# EAGLE library part EP3C25Q240 (library ic-Altera)
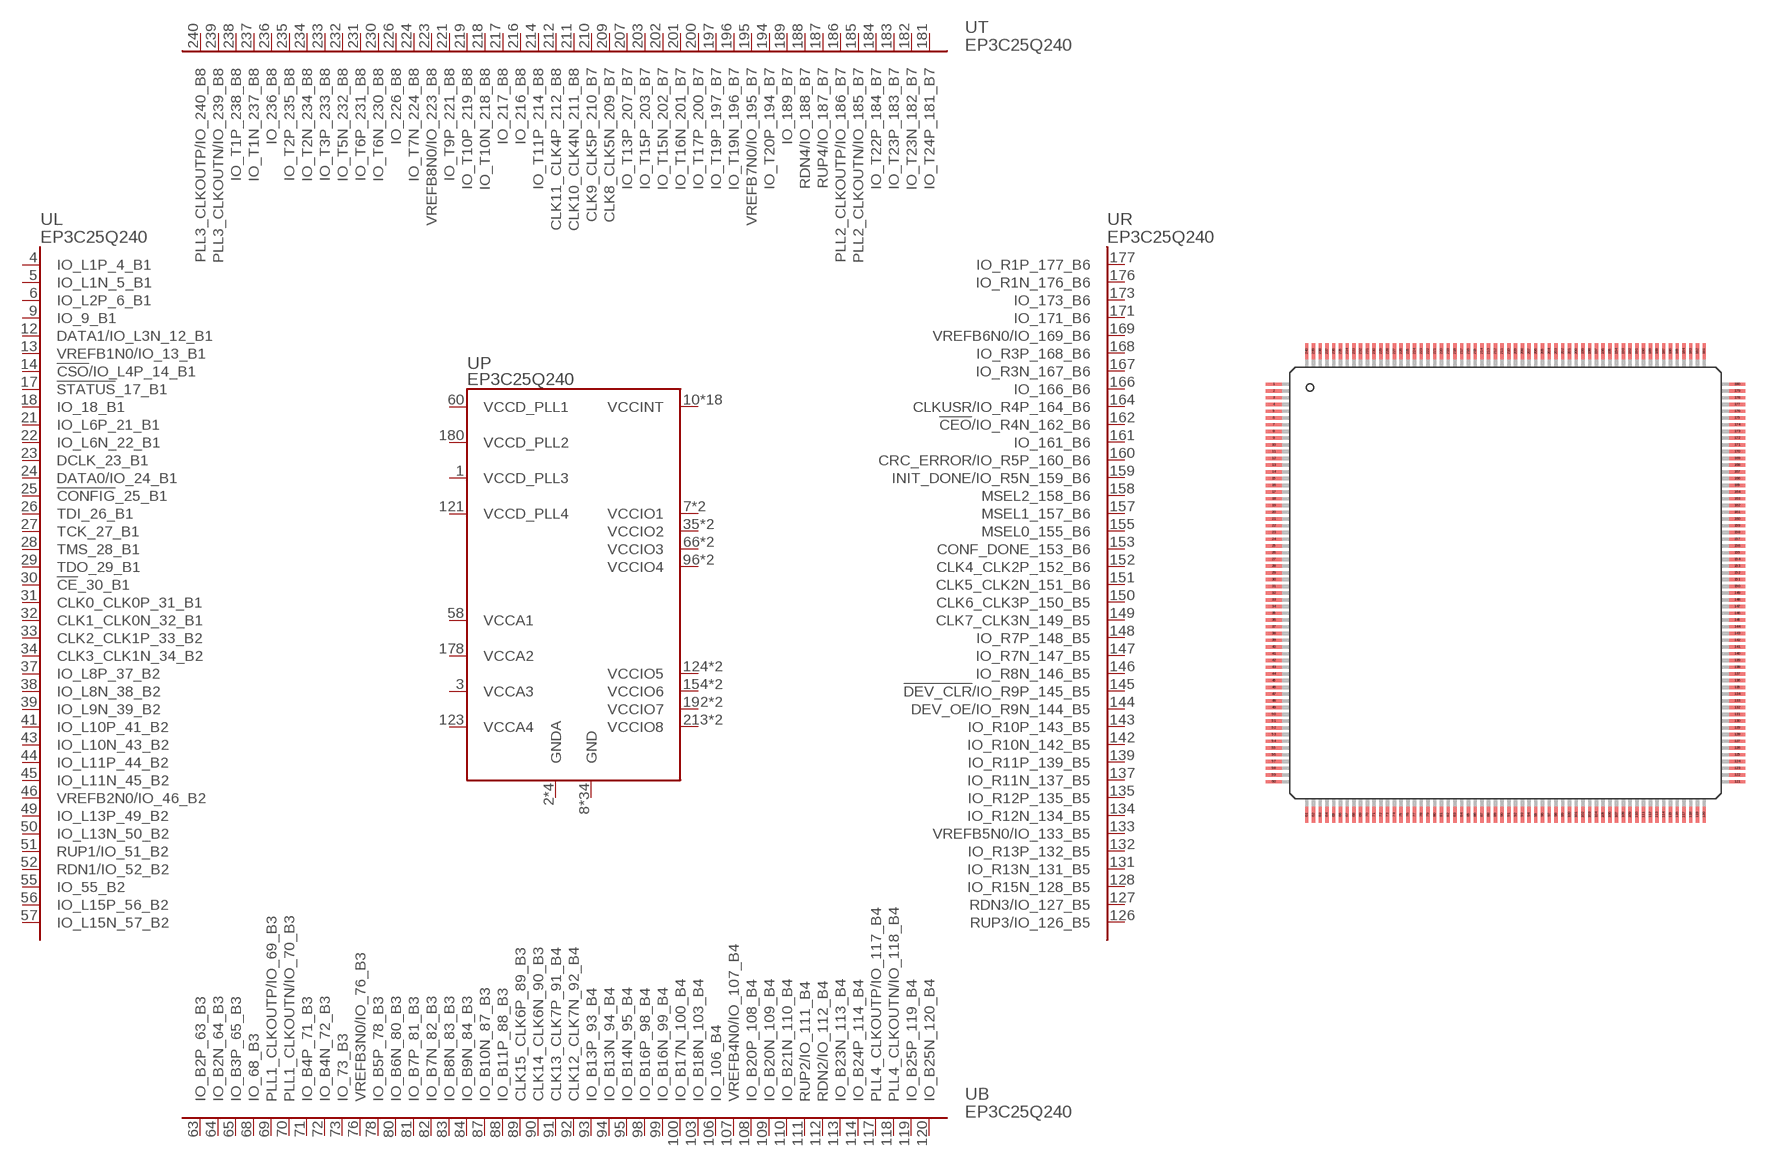
[diagram p7: symbol with the pads of QFP240-0.5; footprint QFP240-0.5]

Designator prefix U; gates L=EP3C25-Q240_L B=EP3C25-Q240_B R=EP3C25-Q240_R T=EP3C25-Q240_T P=EP3C25-Q240_POWER

## EP3C25Q240  [QFP240-0.5]
1  P:VCCD_PLL3
2  P:GNDA
3  P:VCCA3
4  L:IO_L1P_4_B1
5  L:IO_L1N_5_B1
6  L:IO_L2P_6_B1
7  P:VCCIO1
8  P:GND
9  L:IO_9_B1
10  P:VCCINT
11  P:GND
12  L:DATA1/IO_L3N_12_B1
13  L:VREFB1N0/IO_13_B1
14  L:!CSO!/IO_L4P_14_B1
15  P:VCCIO1
16  P:GND
17  L:!STATUS!_17_B1
18  L:IO_18_B1
19  P:VCCINT
20  P:GND
21  L:IO_L6P_21_B1
22  L:IO_L6N_22_B1
23  L:DCLK_23_B1
24  L:DATA0/IO_24_B1
25  L:!CONFIG!_25_B1
26  L:TDI_26_B1
27  L:TCK_27_B1
28  L:TMS_28_B1
29  L:TDO_29_B1
30  L:!CE!_30_B1
31  L:CLK0_CLK0P_31_B1
32  L:CLK1_CLK0N_32_B1
33  L:CLK2_CLK1P_33_B2
34  L:CLK3_CLK1N_34_B2
35  P:VCCIO2
36  P:GND
37  L:IO_L8P_37_B2
38  L:IO_L8N_38_B2
39  L:IO_L9N_39_B2
40  P:VCCINT
41  L:IO_L10P_41_B2
42  P:GND
43  L:IO_L10N_43_B2
44  L:IO_L11P_44_B2
45  L:IO_L11N_45_B2
46  L:VREFB2N0/IO_46_B2
47  P:VCCIO2
48  P:GND
49  L:IO_L13P_49_B2
50  L:IO_L13N_50_B2
51  L:RUP1/IO_51_B2
52  L:RDN1/IO_52_B2
53  P:VCCINT
54  P:GND
55  L:IO_55_B2
56  L:IO_L15P_56_B2
57  L:IO_L15N_57_B2
58  P:VCCA1
59  P:GNDA
60  P:VCCD_PLL1
61  P:VCCINT
62  P:GND
63  B:IO_B2P_63_B3
64  B:IO_B2N_64_B3
65  B:IO_B3P_65_B3
66  P:VCCIO3
67  P:GND
68  B:IO_68_B3
69  B:PLL1_CLKOUTP/IO_69_B3
70  B:PLL1_CLKOUTN/IO_70_B3
71  B:IO_B4P_71_B3
72  B:IO_B4N_72_B3
73  B:IO_73_B3
74  P:VCCINT
75  P:GND
76  B:VREFB3N0/IO_76_B3
77  P:VCCIO3
78  B:IO_B5P_78_B3
79  P:GND
80  B:IO_B6N_80_B3
81  B:IO_B7P_81_B3
82  B:IO_B7N_82_B3
83  B:IO_B8N_83_B3
84  B:IO_B9N_84_B3
85  P:VCCINT
86  P:GND
87  B:IO_B10N_87_B3
88  B:IO_B11P_88_B3
89  B:CLK15_CLK6P_89_B3
90  B:CLK14_CLK6N_90_B3
91  B:CLK13_CLK7P_91_B4
92  B:CLK12_CLK7N_92_B4
93  B:IO_B13P_93_B4
94  B:IO_B13N_94_B4
95  B:IO_B14N_95_B4
96  P:VCCIO4
97  P:GND
98  B:IO_B16P_98_B4
99  B:IO_B16N_99_B4
100  B:IO_B17N_100_B4
101  P:VCCINT
102  P:GND
103  B:IO_B18N_103_B4
104  P:VCCIO4
105  P:GND
106  B:IO_106_B4
107  B:VREFB4N0/IO_107_B4
108  B:IO_B20P_108_B4
109  B:IO_B20N_109_B4
110  B:IO_B21N_110_B4
111  B:RUP2/IO_111_B4
112  B:RDN2/IO_112_B4
113  B:IO_B23N_113_B4
114  B:IO_B24P_114_B4
115  P:VCCINT
116  P:GND
117  B:PLL4_CLKOUTP/IO_117_B4
118  B:PLL4_CLKOUTN/IO_118_B4
119  B:IO_B25P_119_B4
120  B:IO_B25N_120_B4
121  P:VCCD_PLL4
122  P:GNDA
123  P:VCCA4
124  P:VCCIO5
125  P:GND
126  R:RUP3/IO_126_B5
127  R:RDN3/IO_127_B5
128  R:IO_R15N_128_B5
129  P:VCCINT
130  P:GND
131  R:IO_R13N_131_B5
132  R:IO_R13P_132_B5
133  R:VREFB5N0/IO_133_B5
134  R:IO_R12N_134_B5
135  R:IO_R12P_135_B5
136  P:VCCIO5
137  R:IO_R11N_137_B5
138  P:GND
139  R:IO_R11P_139_B5
140  P:VCCINT
141  P:GND
142  R:IO_R10N_142_B5
143  R:IO_R10P_143_B5
144  R:DEV_OE/IO_R9N_144_B5
145  R:!DEV_CLR!/IO_R9P_145_B5
146  R:IO_R8N_146_B5
147  R:IO_R7N_147_B5
148  R:IO_R7P_148_B5
149  R:CLK7_CLK3N_149_B5
150  R:CLK6_CLK3P_150_B5
151  R:CLK5_CLK2N_151_B6
152  R:CLK4_CLK2P_152_B6
153  R:CONF_DONE_153_B6
154  P:VCCIO6
155  R:MSEL0_155_B6
156  P:GND
157  R:MSEL1_157_B6
158  R:MSEL2_158_B6
159  R:INIT_DONE/IO_R5N_159_B6
160  R:CRC_ERROR/IO_R5P_160_B6
161  R:IO_161_B6
162  R:!CEO!/IO_R4N_162_B6
163  P:VCCINT
164  R:CLKUSR/IO_R4P_164_B6
165  P:GND
166  R:IO_166_B6
167  R:IO_R3N_167_B6
168  R:IO_R3P_168_B6
169  R:VREFB6N0/IO_169_B6
170  P:VCCIO6
171  R:IO_171_B6
172  P:GND
173  R:IO_173_B6
174  P:VCCINT
175  P:GND
176  R:IO_R1N_176_B6
177  R:IO_R1P_177_B6
178  P:VCCA2
179  P:GNDA
180  P:VCCD_PLL2
181  T:IO_T24P_181_B7
182  T:IO_T23N_182_B7
183  T:IO_T23P_183_B7
184  T:IO_T22P_184_B7
185  T:PLL2_CLKOUTN/IO_185_B7
186  T:PLL2_CLKOUTP/IO_186_B7
187  T:RUP4/IO_187_B7
188  T:RDN4/IO_188_B7
189  T:IO_189_B7
190  P:VCCINT
191  P:GND
192  P:VCCIO7
193  P:GND
194  T:IO_T20P_194_B7
195  T:VREFB7N0/IO_195_B7
196  T:IO_T19N_196_B7
197  T:IO_T19P_197_B7
198  P:VCCINT
199  P:GND
200  T:IO_T17P_200_B7
201  T:IO_T16N_201_B7
202  T:IO_T15N_202_B7
203  T:IO_T15P_203_B7
204  P:VCCINT
205  P:GND
206  P:VCCIO7
207  T:IO_T13P_207_B7
208  P:GND
209  T:CLK8_CLK5N_209_B7
210  T:CLK9_CLK5P_210_B7
211  T:CLK10_CLK4N_211_B8
212  T:CLK11_CLK4P_212_B8
213  P:VCCIO8
214  T:IO_T11P_214_B8
215  P:GND
216  T:IO_216_B8
217  T:IO_217_B8
218  T:IO_T10N_218_B8
219  T:IO_T10P_219_B8
220  P:VCCINT
221  T:IO_T9P_221_B8
222  P:GND
223  T:VREFB8N0/IO_223_B8
224  T:IO_T7N_224_B8
225  P:VCCIO8
226  T:IO_226_B8
227  P:GND
228  P:VCCINT
229  P:GND
230  T:IO_T6N_230_B8
231  T:IO_T6P_231_B8
232  T:IO_T5N_232_B8
233  T:IO_T3P_233_B8
234  T:IO_T2N_234_B8
235  T:IO_T2P_235_B8
236  T:IO_236_B8
237  T:IO_T1N_237_B8
238  T:IO_T1P_238_B8
239  T:PLL3_CLKOUTN/IO_239_B8
240  T:PLL3_CLKOUTP/IO_240_B8

## Footprint QFP240-0.5 (pad centres in mm)
smd 1.2 x 0.25: 1 -17.2,14.75; 2 -17.2,14.25; 3 -17.2,13.75; 4 -17.2,13.25; 5 -17.2,12.75; 6 -17.2,12.25; 7 -17.2,11.75; 8 -17.2,11.25; 9 -17.2,10.75; 10 -17.2,10.25; 11 -17.2,9.75; 12 -17.2,9.25; 13 -17.2,8.75; 14 -17.2,8.25; 15 -17.2,7.75; 16 -17.2,7.25; 17 -17.2,6.75; 18 -17.2,6.25; 19 -17.2,5.75; 20 -17.2,5.25; 21 -17.2,4.75; 22 -17.2,4.25; 23 -17.2,3.75; 24 -17.2,3.25; 25 -17.2,2.75; 26 -17.2,2.25; 27 -17.2,1.75; 28 -17.2,1.25; 29 -17.2,0.75; 30 -17.2,0.25; 31 -17.2,-0.25; 32 -17.2,-0.75; 33 -17.2,-1.25; 34 -17.2,-1.75; 35 -17.2,-2.25; 36 -17.2,-2.75; 37 -17.2,-3.25; 38 -17.2,-3.75; 39 -17.2,-4.25; 40 -17.2,-4.75; 41 -17.2,-5.25; 42 -17.2,-5.75; 43 -17.2,-6.25; 44 -17.2,-6.75; 45 -17.2,-7.25; 46 -17.2,-7.75; 47 -17.2,-8.25; 48 -17.2,-8.75; 49 -17.2,-9.25; 50 -17.2,-9.75; 51 -17.2,-10.25; 52 -17.2,-10.75; 53 -17.2,-11.25; 54 -17.2,-11.75; 55 -17.2,-12.25; 56 -17.2,-12.75; 57 -17.2,-13.25; 58 -17.2,-13.75; 59 -17.2,-14.25; 60 -17.2,-14.75; 121 17.2,-14.75; 122 17.2,-14.25; 123 17.2,-13.75; 124 17.2,-13.25; 125 17.2,-12.75; 126 17.2,-12.25; 127 17.2,-11.75; 128 17.2,-11.25; 129 17.2,-10.75; 130 17.2,-10.25; 131 17.2,-9.75; 132 17.2,-9.25; 133 17.2,-8.75; 134 17.2,-8.25; 135 17.2,-7.75; 136 17.2,-7.25; 137 17.2,-6.75; 138 17.2,-6.25; 139 17.2,-5.75; 140 17.2,-5.25; 141 17.2,-4.75; 142 17.2,-4.25; 143 17.2,-3.75; 144 17.2,-3.25; 145 17.2,-2.75; 146 17.2,-2.25; 147 17.2,-1.75; 148 17.2,-1.25; 149 17.2,-0.75; 150 17.2,-0.25; 151 17.2,0.25; 152 17.2,0.75; 153 17.2,1.25; 154 17.2,1.75; 155 17.2,2.25; 156 17.2,2.75; 157 17.2,3.25; 158 17.2,3.75; 159 17.2,4.25; 160 17.2,4.75; 161 17.2,5.25; 162 17.2,5.75; 163 17.2,6.25; 164 17.2,6.75; 165 17.2,7.25; 166 17.2,7.75; 167 17.2,8.25; 168 17.2,8.75; 169 17.2,9.25; 170 17.2,9.75; 171 17.2,10.25; 172 17.2,10.75; 173 17.2,11.25; 174 17.2,11.75; 175 17.2,12.25; 176 17.2,12.75; 177 17.2,13.25; 178 17.2,13.75; 179 17.2,14.25; 180 17.2,14.75
smd 0.25 x 1.2: 61 -14.75,-17.2; 62 -14.25,-17.2; 63 -13.75,-17.2; 64 -13.25,-17.2; 65 -12.75,-17.2; 66 -12.25,-17.2; 67 -11.75,-17.2; 68 -11.25,-17.2; 69 -10.75,-17.2; 70 -10.25,-17.2; 71 -9.75,-17.2; 72 -9.25,-17.2; 73 -8.75,-17.2; 74 -8.25,-17.2; 75 -7.75,-17.2; 76 -7.25,-17.2; 77 -6.75,-17.2; 78 -6.25,-17.2; 79 -5.75,-17.2; 80 -5.25,-17.2; 81 -4.75,-17.2; 82 -4.25,-17.2; 83 -3.75,-17.2; 84 -3.25,-17.2; 85 -2.75,-17.2; 86 -2.25,-17.2; 87 -1.75,-17.2; 88 -1.25,-17.2; 89 -0.75,-17.2; 90 -0.25,-17.2; 91 0.25,-17.2; 92 0.75,-17.2; 93 1.25,-17.2; 94 1.75,-17.2; 95 2.25,-17.2; 96 2.75,-17.2; 97 3.25,-17.2; 98 3.75,-17.2; 99 4.25,-17.2; 100 4.75,-17.2; 101 5.25,-17.2; 102 5.75,-17.2; 103 6.25,-17.2; 104 6.75,-17.2; 105 7.25,-17.2; 106 7.75,-17.2; 107 8.25,-17.2; 108 8.75,-17.2; 109 9.25,-17.2; 110 9.75,-17.2; 111 10.25,-17.2; 112 10.75,-17.2; 113 11.25,-17.2; 114 11.75,-17.2; 115 12.25,-17.2; 116 12.75,-17.2; 117 13.25,-17.2; 118 13.75,-17.2; 119 14.25,-17.2; 120 14.75,-17.2; 181 14.75,17.2; 182 14.25,17.2; 183 13.75,17.2; 184 13.25,17.2; 185 12.75,17.2; 186 12.25,17.2; 187 11.75,17.2; 188 11.25,17.2; 189 10.75,17.2; 190 10.25,17.2; 191 9.75,17.2; 192 9.25,17.2; 193 8.75,17.2; 194 8.25,17.2; 195 7.75,17.2; 196 7.25,17.2; 197 6.75,17.2; 198 6.25,17.2; 199 5.75,17.2; 200 5.25,17.2; 201 4.75,17.2; 202 4.25,17.2; 203 3.75,17.2; 204 3.25,17.2; 205 2.75,17.2; 206 2.25,17.2; 207 1.75,17.2; 208 1.25,17.2; 209 0.75,17.2; 210 0.25,17.2; 211 -0.25,17.2; 212 -0.75,17.2; 213 -1.25,17.2; 214 -1.75,17.2; 215 -2.25,17.2; 216 -2.75,17.2; 217 -3.25,17.2; 218 -3.75,17.2; 219 -4.25,17.2; 220 -4.75,17.2; 221 -5.25,17.2; 222 -5.75,17.2; 223 -6.25,17.2; 224 -6.75,17.2; 225 -7.25,17.2; 226 -7.75,17.2; 227 -8.25,17.2; 228 -8.75,17.2; 229 -9.25,17.2; 230 -9.75,17.2; 231 -10.25,17.2; 232 -10.75,17.2; 233 -11.25,17.2; 234 -11.75,17.2; 235 -12.25,17.2; 236 -12.75,17.2; 237 -13.25,17.2; 238 -13.75,17.2; 239 -14.25,17.2; 240 -14.75,17.2